# Altium schematic symbol library pporyzala-TI_Lighting.SchLib: 745 symbols (part 8 of 48)
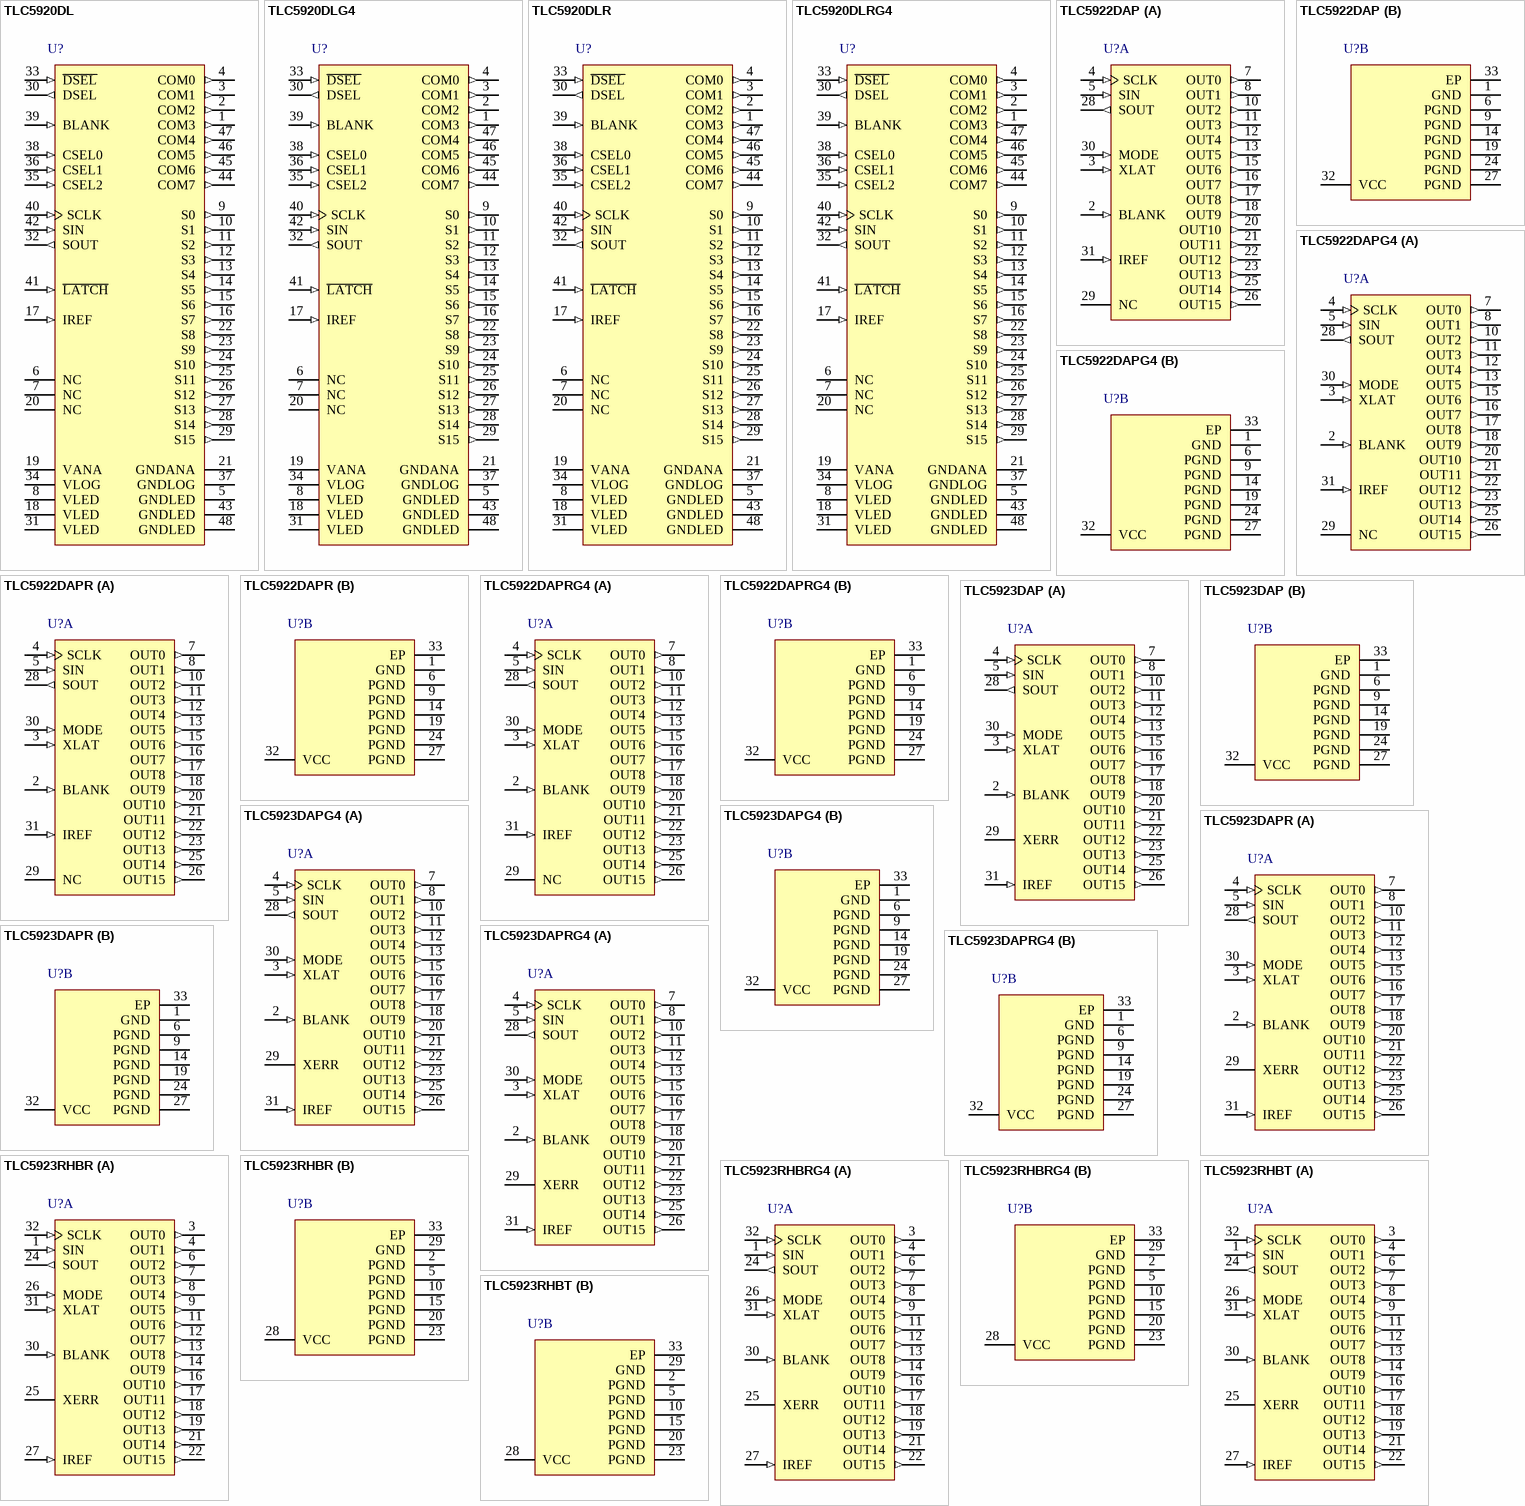
[diagram p38: symbols TLC5920DL to TLC5923RHBT]

## TLC5923RHBRG4
designator U?
16-Channel LED Driver with DOT Correction, 3 to 5.5 V, -40 to 85 degC, 32-pin QFN (RHB32), Green (RoHS & no Sb/Br); Manufacturer: Texas Instruments; PartNumber: TLC5923RHBRG4; Rating: Catalog; Vin(Max)(V): 5.5; Vin(Min)(V): 3; DatasheetVersion: SLVS550A; PackageVersion: 4204326/D; PackageReference: RHB32-3450X3450TP; PackageDescription: 32-Pin Plastic Flat Pack, Body 5 x 5 mm, Pitch 0.5 mm; Supplier 1: Digi-Key; Supplier Part Number 1: TLC5923RHBRG4-ND; Supplier 2: Mouser; Supplier Part Number 2: 595-TLC5923RHBRG4; Eco-Plan: Green (RoHS & no Sb/Br); SubFamily: LED Driver; Mounting Technology: Surface Mount; Code_JEDEC: MO-220; ComponentLink1Description: Manufacturer URL; ComponentLink1URL: http://www.ti.com/; ComponentLink2Description: Datasheet; ComponentLink2URL: http://www.ti.com/general/docs/lit/getliterature.tsp?genericPartNumber=TLC5923&fileType=pdf; ComponentLink3Description: Package Specification; ComponentLink3URL: http://www.ti.com/lit/ml/mpqf130c/mpqf130c.pdf
footprint TI-RHB32-3450X3450TP_V (QFN, 32-Leads, Body 5x5mm, Pitch 0.5mm, Thermal Pad 3.45x3.45mm)
part A pins: 1 SIN (in) "Data input of serial I/F", 3 OUT0 (out) "Constant current output", 4 OUT1 (out) "Constant current output", 6 OUT2 (out) "Constant current output", 7 OUT3 (out) "Constant current output", 8 OUT4 (out) "Constant current output", 9 OUT5 (out) "Constant current output", 11 OUT6 (out) "Constant current output", 12 OUT7 (out) "Constant current output", 13 OUT8 (out) "Constant current output", 14 OUT9 (out) "Constant current output", 16 OUT10 (out) "Constant current output", 17 OUT11 (out) "Constant current output", 18 OUT12 (out) "Constant current output", 19 OUT13 (out) "Constant current output", 21 OUT14 (out) "Constant current output", 22 OUT15 (out) "Constant current output", 24 SOUT (out) "Data output of serial I/F", 25 XERR (oc) "Error output. XERR is open drain terminal. XERR transistions from H to L when LOD or TEF detected.", 26 MODE (in) "Mode select. When MODE=L, SIN, SOUT, SCLK, XLAT are connected to ON/OFF control logic. When MODE=H, SIN, SOUT, SCLK, XLAT are connected to dot-correction logic.", 27 IREF (in) "Reference current terminal", 30 BLANK (in) "Blank (Light OFF). When BLANK=H, All OUTx outputs are forced OFF. When BLANK=L, ON/OFF of OUTx outputs are controlled by input data.", 31 XLAT (in) "Data latch. Note that the internal connections are switched by MODE (pin #30). At rising edge of XLAT, the latches selected by MODE get new data.", 32 SCLK (in) "Data shift clock. Note that the internal connections are switched by MODE (pin #30). At rising edge of XLAT, the shift-registers selected by MODE shift the data."
part B pins: 2 PGND (power) "Power ground", 5 PGND (power) "Power ground", 10 PGND (power) "Power ground", 15 PGND (power) "Power ground", 20 PGND (power) "Power ground", 23 PGND (power) "Power ground", 28 VCC (power) "Power supply voltage", 29 GND (power) "Ground", 33 EP "Exposed Thermal Pad"

## TLC5923RHBT
designator U?
16-Channel LED Driver with DOT Correction, 3 to 5.5 V, -40 to 85 degC, 32-pin QFN (RHB32), Green (RoHS & no Sb/Br); Manufacturer: Texas Instruments; PartNumber: TLC5923RHBT; Rating: Catalog; Vin(Max)(V): 5.5; Vin(Min)(V): 3; DatasheetVersion: SLVS550A; PackageVersion: 4204326/D; PackageReference: RHB32-3450X3450TP; PackageDescription: 32-Pin Plastic Flat Pack, Body 5 x 5 mm, Pitch 0.5 mm; Supplier 1: Digi-Key; Supplier Part Number 1: 296-19334-2-ND; Supplier 2: Digi-Key; Supplier Part Number 2: 296-19334-1-ND; Supplier 3: Digi-Key; Supplier Part Number 3: 296-19334-6-ND; Supplier 4: Newark; Supplier Part Number 4: 67K8506; Supplier 5: Mouser; Supplier Part Number 5: 595-TLC5923RHBT; Eco-Plan: Green (RoHS & no Sb/Br); SubFamily: LED Driver; Mounting Technology: Surface Mount; Code_JEDEC: MO-220; ComponentLink1Description: Manufacturer URL; ComponentLink1URL: http://www.ti.com/; ComponentLink2Description: Datasheet; ComponentLink2URL: http://www.ti.com/general/docs/lit/getliterature.tsp?genericPartNumber=TLC5923&fileType=pdf; ComponentLink3Description: Package Specification; ComponentLink3URL: http://www.ti.com/lit/ml/mpqf130c/mpqf130c.pdf
footprint TI-RHB32-3450X3450TP_V (QFN, 32-Leads, Body 5x5mm, Pitch 0.5mm, Thermal Pad 3.45x3.45mm)
part A pins: 1 SIN (in) "Data input of serial I/F", 3 OUT0 (out) "Constant current output", 4 OUT1 (out) "Constant current output", 6 OUT2 (out) "Constant current output", 7 OUT3 (out) "Constant current output", 8 OUT4 (out) "Constant current output", 9 OUT5 (out) "Constant current output", 11 OUT6 (out) "Constant current output", 12 OUT7 (out) "Constant current output", 13 OUT8 (out) "Constant current output", 14 OUT9 (out) "Constant current output", 16 OUT10 (out) "Constant current output", 17 OUT11 (out) "Constant current output", 18 OUT12 (out) "Constant current output", 19 OUT13 (out) "Constant current output", 21 OUT14 (out) "Constant current output", 22 OUT15 (out) "Constant current output", 24 SOUT (out) "Data output of serial I/F", 25 XERR (oc) "Error output. XERR is open drain terminal. XERR transistions from H to L when LOD or TEF detected.", 26 MODE (in) "Mode select. When MODE=L, SIN, SOUT, SCLK, XLAT are connected to ON/OFF control logic. When MODE=H, SIN, SOUT, SCLK, XLAT are connected to dot-correction logic.", 27 IREF (in) "Reference current terminal", 30 BLANK (in) "Blank (Light OFF). When BLANK=H, All OUTx outputs are forced OFF. When BLANK=L, ON/OFF of OUTx outputs are controlled by input data.", 31 XLAT (in) "Data latch. Note that the internal connections are switched by MODE (pin #30). At rising edge of XLAT, the latches selected by MODE get new data.", 32 SCLK (in) "Data shift clock. Note that the internal connections are switched by MODE (pin #30). At rising edge of XLAT, the shift-registers selected by MODE shift the data."
part B pins: 2 PGND (power) "Power ground", 5 PGND (power) "Power ground", 10 PGND (power) "Power ground", 15 PGND (power) "Power ground", 20 PGND (power) "Power ground", 23 PGND (power) "Power ground", 28 VCC (power) "Power supply voltage", 29 GND (power) "Ground", 33 EP "Exposed Thermal Pad"

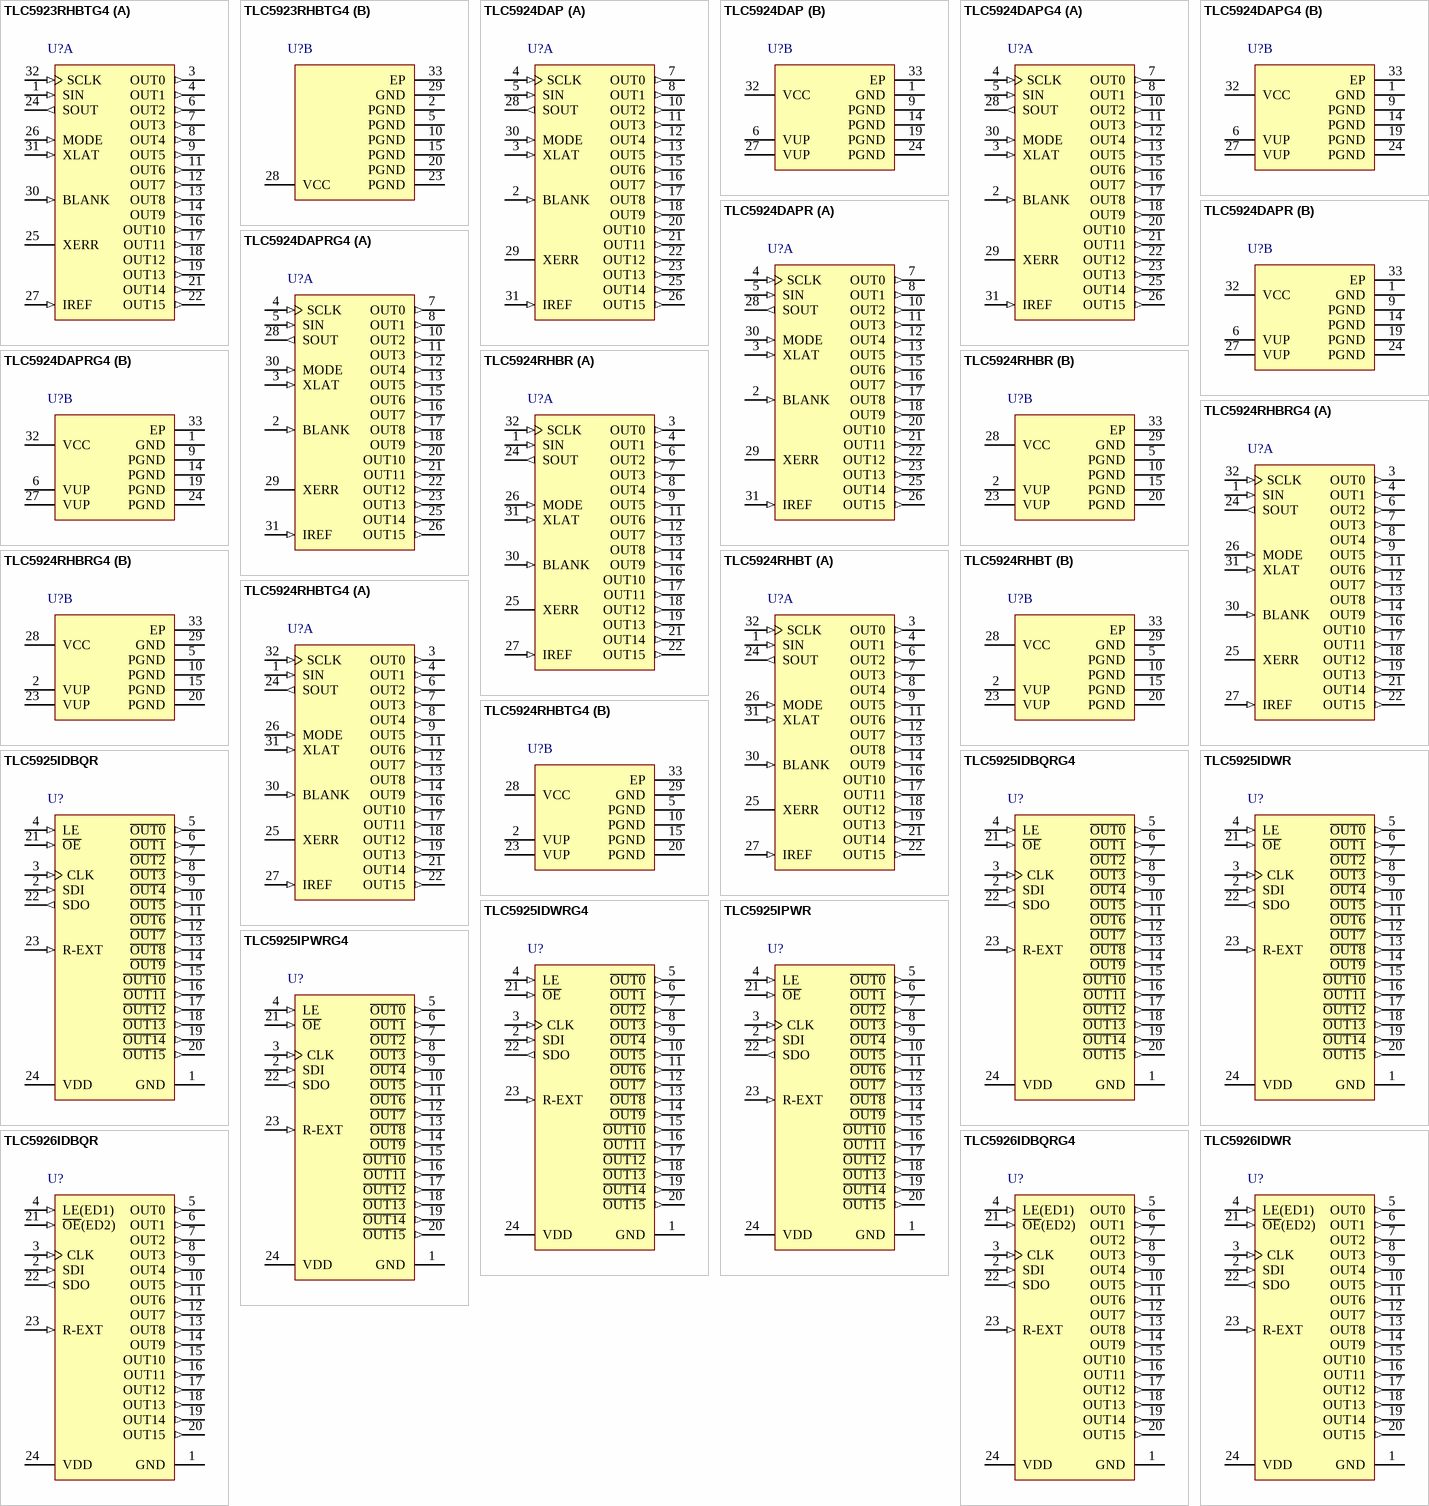
[diagram p6: symbols TLC5923RHBTG4 to TLC5926IDWR]

## TLC5923RHBTG4
designator U?
16-Channel LED Driver with DOT Correction, 3 to 5.5 V, -40 to 85 degC, 32-pin QFN (RHB32), Green (RoHS & no Sb/Br); Manufacturer: Texas Instruments; PartNumber: TLC5923RHBTG4; Rating: Catalog; Vin(Max)(V): 5.5; Vin(Min)(V): 3; DatasheetVersion: SLVS550A; PackageVersion: 4204326/D; PackageReference: RHB32-3450X3450TP; PackageDescription: 32-Pin Plastic Flat Pack, Body 5 x 5 mm, Pitch 0.5 mm; Supplier 1: Digi-Key; Supplier Part Number 1: TLC5923RHBTG4-ND; Supplier 2: Mouser; Supplier Part Number 2: 595-TLC5923RHBTG4; Eco-Plan: Green (RoHS & no Sb/Br); SubFamily: LED Driver; Mounting Technology: Surface Mount; Code_JEDEC: MO-220; ComponentLink1Description: Manufacturer URL; ComponentLink1URL: http://www.ti.com/; ComponentLink2Description: Datasheet; ComponentLink2URL: http://www.ti.com/general/docs/lit/getliterature.tsp?genericPartNumber=TLC5923&fileType=pdf; ComponentLink3Description: Package Specification; ComponentLink3URL: http://www.ti.com/lit/ml/mpqf130c/mpqf130c.pdf
footprint TI-RHB32-3450X3450TP_V (QFN, 32-Leads, Body 5x5mm, Pitch 0.5mm, Thermal Pad 3.45x3.45mm)
part A pins: 1 SIN (in) "Data input of serial I/F", 3 OUT0 (out) "Constant current output", 4 OUT1 (out) "Constant current output", 6 OUT2 (out) "Constant current output", 7 OUT3 (out) "Constant current output", 8 OUT4 (out) "Constant current output", 9 OUT5 (out) "Constant current output", 11 OUT6 (out) "Constant current output", 12 OUT7 (out) "Constant current output", 13 OUT8 (out) "Constant current output", 14 OUT9 (out) "Constant current output", 16 OUT10 (out) "Constant current output", 17 OUT11 (out) "Constant current output", 18 OUT12 (out) "Constant current output", 19 OUT13 (out) "Constant current output", 21 OUT14 (out) "Constant current output", 22 OUT15 (out) "Constant current output", 24 SOUT (out) "Data output of serial I/F", 25 XERR (oc) "Error output. XERR is open drain terminal. XERR transistions from H to L when LOD or TEF detected.", 26 MODE (in) "Mode select. When MODE=L, SIN, SOUT, SCLK, XLAT are connected to ON/OFF control logic. When MODE=H, SIN, SOUT, SCLK, XLAT are connected to dot-correction logic.", 27 IREF (in) "Reference current terminal", 30 BLANK (in) "Blank (Light OFF). When BLANK=H, All OUTx outputs are forced OFF. When BLANK=L, ON/OFF of OUTx outputs are controlled by input data.", 31 XLAT (in) "Data latch. Note that the internal connections are switched by MODE (pin #30). At rising edge of XLAT, the latches selected by MODE get new data.", 32 SCLK (in) "Data shift clock. Note that the internal connections are switched by MODE (pin #30). At rising edge of XLAT, the shift-registers selected by MODE shift the data."
part B pins: 2 PGND (power) "Power ground", 5 PGND (power) "Power ground", 10 PGND (power) "Power ground", 15 PGND (power) "Power ground", 20 PGND (power) "Power ground", 23 PGND (power) "Power ground", 28 VCC (power) "Power supply voltage", 29 GND (power) "Ground", 33 EP "Exposed Thermal Pad"

## TLC5924DAP
designator U?
16-Channel LED Driver with DOT Correction & Pre-Charge FET, 3 to 5.5 V, -40 to 85 degC, 32-pin SOP (DAP32), Green (RoHS & no Sb/Br); Manufacturer: Texas Instruments; PartNumber: TLC5924DAP; Iout(Max)(A): 0.08; Rating: Catalog; SubFamily: Signage/Linear; Vin(Max)(V): 5.5; Vin(Min)(V): 3; DatasheetVersion: SLVS626; PackageVersion: 4073257-4/E; PackageReference: DAP32-3810X3710TP; PackageDescription: 32-pin Plastic Small Outline, Body 11 x 6.1 mm, Pitch 0.65 mm; Supplier 1: Digi-Key; Supplier Part Number 1: 296-20736-ND; Supplier 2: Farnell; Supplier Part Number 2: 1755254; Supplier 3: Newark; Supplier Part Number 3: 18M3163; Supplier 4: Mouser; Supplier Part Number 4: 595-TLC5924DAP; Eco-Plan: Green (RoHS & no Sb/Br); Mounting Technology: Surface Mount; Code_JEDEC: MO-153; ComponentLink1Description: Manufacturer URL; ComponentLink1URL: http://www.ti.com/; ComponentLink2Description: Datasheet; ComponentLink2URL: http://www.ti.com/general/docs/lit/getliterature.tsp?genericPartNumber=TLC5924&fileType=pdf; ComponentLink3Description: Package Specification; ComponentLink3URL: http://www.ti.com/litv/pdf/mpds380
footprint TI-DAP32-3810X3710TP_N (SOIC, 32-Leads, Body 11x6.1mm, Pitch 0.65mm, Thermal Pad 3.71 x3.81mm, IPC Medium Density)
footprint TI-DAP32-3810X3710TP_L (SOIC, 32-Leads, Body 11x6.1mm, Pitch 0.65mm, Thermal Pad 3.71 x3.81mm, IPC High Density)
footprint TI-DAP32-3810X3710TP_M (SOIC, 32-Leads, Body 11x6.1mm, Pitch 0.65mm, Thermal Pad 3.71 x3.81mm, IPC Low Density)
part A pins: 2 BLANK (in) "Blank (Light OFF). When BLANK=H, All OUTn outputs are forced to VUP level. When BLANK=L, ON/OFF of OUTn outputs are controlled by input data.", 3 XLAT (in) "Data latch signal. When MODE = L (ON/OFF data mode), XLAT is an edge-triggered latch signal of ON/OFF registers. The serial data in ON/OFF input shift registers is latched into the ON/OFF registers at the rising edge of XLAT.(See Datasheet)", 4 SCLK (in) "Data shift clock. Note that the internal connections are switched by MODE (pin #30). At rising edge of SCLK­, the shift-registers selected by MODE shift the data.", 5 SIN (in) "Data input of serial I/F", 7 OUT0 (out) "Constant current output", 8 OUT1 (out) "Constant current output", 10 OUT2 (out) "Constant current output", 11 OUT3 (out) "Constant current output", 12 OUT4 (out) "Constant current output", 13 OUT5 (out) "Constant current output", 15 OUT6 (out) "Constant current output", 16 OUT7 (out) "Constant current output", 17 OUT8 (out) "Constant current output", 18 OUT9 (out) "Constant current output", 20 OUT10 (out) "Constant current output", 21 OUT11 (out) "Constant current output", 22 OUT12 (out) "Constant current output", 23 OUT13 (out) "Constant current output", 25 OUT14 (out) "Constant current output", 26 OUT15 (out) "Constant current output", 28 SOUT (out) "Data output of serial I/F", 29 XERR (hiz) "Error output. XERR is open drain terminal. XERR transistions from H to L when LOD or TEF detected.", 30 MODE (in) "Mode select. When MODE=L, SIN, SOUT, SCLK, XLAT are connected to ON/OFF control logic. When MODE=H, SIN, SOUT, SCLK, XLAT are connected to dot-correction logic.", 31 IREF (in) "Reference current terminal"
part B pins: 1 GND (power) "Ground", 6 VUP (power) "Pre-charge power supply voltage", 9 PGND (power) "Power ground", 14 PGND (power) "Power ground", 19 PGND (power) "Power ground", 24 PGND (power) "Power ground", 27 VUP (power) "Pre-charge power supply voltage", 32 VCC (power) "Power supply voltage", 33 EP "Thermal pad"

## TLC5924DAPG4
designator U?
16-Channel LED Driver with DOT Correction & Pre-Charge FET, 3 to 5.5 V, -40 to 85 degC, 32-pin SOP (DAP32), Green (RoHS & no Sb/Br); Manufacturer: Texas Instruments; PartNumber: TLC5924DAPG4; Iout(Max)(A): 0.08; Rating: Catalog; SubFamily: Signage/Linear; Vin(Max)(V): 5.5; Vin(Min)(V): 3; DatasheetVersion: SLVS626; PackageVersion: 4073257-4/E; PackageReference: DAP32-3810X3710TP; PackageDescription: 32-pin Plastic Small Outline, Body 11 x 6.1 mm, Pitch 0.65 mm; Supplier 1: Digi-Key; Supplier Part Number 1: TLC5924DAPG4-ND; Supplier 2: Newark; Supplier Part Number 2: 18M3164; Supplier 3: Mouser; Supplier Part Number 3: 595-TLC5924DAPG4; Eco-Plan: Green (RoHS & no Sb/Br); Mounting Technology: Surface Mount; Code_JEDEC: MO-153; ComponentLink1Description: Manufacturer URL; ComponentLink1URL: http://www.ti.com/; ComponentLink2Description: Datasheet; ComponentLink2URL: http://www.ti.com/general/docs/lit/getliterature.tsp?genericPartNumber=TLC5924&fileType=pdf; ComponentLink3Description: Package Specification; ComponentLink3URL: http://www.ti.com/litv/pdf/mpds380
footprint TI-DAP32-3810X3710TP_N (SOIC, 32-Leads, Body 11x6.1mm, Pitch 0.65mm, Thermal Pad 3.71 x3.81mm, IPC Medium Density)
footprint TI-DAP32-3810X3710TP_L (SOIC, 32-Leads, Body 11x6.1mm, Pitch 0.65mm, Thermal Pad 3.71 x3.81mm, IPC High Density)
footprint TI-DAP32-3810X3710TP_M (SOIC, 32-Leads, Body 11x6.1mm, Pitch 0.65mm, Thermal Pad 3.71 x3.81mm, IPC Low Density)
part A pins: 2 BLANK (in) "Blank (Light OFF). When BLANK=H, All OUTn outputs are forced to VUP level. When BLANK=L, ON/OFF of OUTn outputs are controlled by input data.", 3 XLAT (in) "Data latch signal. When MODE = L (ON/OFF data mode), XLAT is an edge-triggered latch signal of ON/OFF registers. The serial data in ON/OFF input shift registers is latched into the ON/OFF registers at the rising edge of XLAT.(See Datasheet)", 4 SCLK (in) "Data shift clock. Note that the internal connections are switched by MODE (pin #30). At rising edge of SCLK­, the shift-registers selected by MODE shift the data.", 5 SIN (in) "Data input of serial I/F", 7 OUT0 (out) "Constant current output", 8 OUT1 (out) "Constant current output", 10 OUT2 (out) "Constant current output", 11 OUT3 (out) "Constant current output", 12 OUT4 (out) "Constant current output", 13 OUT5 (out) "Constant current output", 15 OUT6 (out) "Constant current output", 16 OUT7 (out) "Constant current output", 17 OUT8 (out) "Constant current output", 18 OUT9 (out) "Constant current output", 20 OUT10 (out) "Constant current output", 21 OUT11 (out) "Constant current output", 22 OUT12 (out) "Constant current output", 23 OUT13 (out) "Constant current output", 25 OUT14 (out) "Constant current output", 26 OUT15 (out) "Constant current output", 28 SOUT (out) "Data output of serial I/F", 29 XERR (hiz) "Error output. XERR is open drain terminal. XERR transistions from H to L when LOD or TEF detected.", 30 MODE (in) "Mode select. When MODE=L, SIN, SOUT, SCLK, XLAT are connected to ON/OFF control logic. When MODE=H, SIN, SOUT, SCLK, XLAT are connected to dot-correction logic.", 31 IREF (in) "Reference current terminal"
part B pins: 1 GND (power) "Ground", 6 VUP (power) "Pre-charge power supply voltage", 9 PGND (power) "Power ground", 14 PGND (power) "Power ground", 19 PGND (power) "Power ground", 24 PGND (power) "Power ground", 27 VUP (power) "Pre-charge power supply voltage", 32 VCC (power) "Power supply voltage", 33 EP "Thermal pad"

## TLC5924DAPR
designator U?
16-Channel LED Driver with DOT Correction & Pre-Charge FET, 3 to 5.5 V, -40 to 85 degC, 32-pin SOP (DAP32), Green (RoHS & no Sb/Br); Manufacturer: Texas Instruments; PartNumber: TLC5924DAPR; Iout(Max)(A): 0.08; Rating: Catalog; SubFamily: Signage/Linear; Vin(Max)(V): 5.5; Vin(Min)(V): 3; DatasheetVersion: SLVS626; PackageVersion: 4073257-4/E; PackageReference: DAP32-3810X3710TP; PackageDescription: 32-pin Plastic Small Outline, Body 11 x 6.1 mm, Pitch 0.65 mm; Supplier 1: Digi-Key; Supplier Part Number 1: TLC5924DAPR-ND; Supplier 2: Mouser; Supplier Part Number 2: 595-TLC5924DAPR; Eco-Plan: Green (RoHS & no Sb/Br); Mounting Technology: Surface Mount; Code_JEDEC: MO-153; ComponentLink1Description: Manufacturer URL; ComponentLink1URL: http://www.ti.com/; ComponentLink2Description: Datasheet; ComponentLink2URL: http://www.ti.com/general/docs/lit/getliterature.tsp?genericPartNumber=TLC5924&fileType=pdf; ComponentLink3Description: Package Specification; ComponentLink3URL: http://www.ti.com/litv/pdf/mpds380
footprint TI-DAP32-3810X3710TP_N (SOIC, 32-Leads, Body 11x6.1mm, Pitch 0.65mm, Thermal Pad 3.71 x3.81mm, IPC Medium Density)
footprint TI-DAP32-3810X3710TP_L (SOIC, 32-Leads, Body 11x6.1mm, Pitch 0.65mm, Thermal Pad 3.71 x3.81mm, IPC High Density)
footprint TI-DAP32-3810X3710TP_M (SOIC, 32-Leads, Body 11x6.1mm, Pitch 0.65mm, Thermal Pad 3.71 x3.81mm, IPC Low Density)
part A pins: 2 BLANK (in) "Blank (Light OFF). When BLANK=H, All OUTn outputs are forced to VUP level. When BLANK=L, ON/OFF of OUTn outputs are controlled by input data.", 3 XLAT (in) "Data latch signal. When MODE = L (ON/OFF data mode), XLAT is an edge-triggered latch signal of ON/OFF registers. The serial data in ON/OFF input shift registers is latched into the ON/OFF registers at the rising edge of XLAT.(See Datasheet)", 4 SCLK (in) "Data shift clock. Note that the internal connections are switched by MODE (pin #30). At rising edge of SCLK­, the shift-registers selected by MODE shift the data.", 5 SIN (in) "Data input of serial I/F", 7 OUT0 (out) "Constant current output", 8 OUT1 (out) "Constant current output", 10 OUT2 (out) "Constant current output", 11 OUT3 (out) "Constant current output", 12 OUT4 (out) "Constant current output", 13 OUT5 (out) "Constant current output", 15 OUT6 (out) "Constant current output", 16 OUT7 (out) "Constant current output", 17 OUT8 (out) "Constant current output", 18 OUT9 (out) "Constant current output", 20 OUT10 (out) "Constant current output", 21 OUT11 (out) "Constant current output", 22 OUT12 (out) "Constant current output", 23 OUT13 (out) "Constant current output", 25 OUT14 (out) "Constant current output", 26 OUT15 (out) "Constant current output", 28 SOUT (out) "Data output of serial I/F", 29 XERR (hiz) "Error output. XERR is open drain terminal. XERR transistions from H to L when LOD or TEF detected.", 30 MODE (in) "Mode select. When MODE=L, SIN, SOUT, SCLK, XLAT are connected to ON/OFF control logic. When MODE=H, SIN, SOUT, SCLK, XLAT are connected to dot-correction logic.", 31 IREF (in) "Reference current terminal"
part B pins: 1 GND (power) "Ground", 6 VUP (power) "Pre-charge power supply voltage", 9 PGND (power) "Power ground", 14 PGND (power) "Power ground", 19 PGND (power) "Power ground", 24 PGND (power) "Power ground", 27 VUP (power) "Pre-charge power supply voltage", 32 VCC (power) "Power supply voltage", 33 EP "Thermal pad"

## TLC5924DAPRG4
designator U?
16-Channel LED Driver with DOT Correction & Pre-Charge FET, 3 to 5.5 V, -40 to 85 degC, 32-pin SOP (DAP32), Green (RoHS & no Sb/Br); Manufacturer: Texas Instruments; PartNumber: TLC5924DAPRG4; Iout(Max)(A): 0.08; Rating: Catalog; SubFamily: Signage/Linear; Vin(Max)(V): 5.5; Vin(Min)(V): 3; DatasheetVersion: SLVS626; PackageVersion: 4073257-4/E; PackageReference: DAP32-3810X3710TP; PackageDescription: 32-pin Plastic Small Outline, Body 11 x 6.1 mm, Pitch 0.65 mm; Supplier 1: Digi-Key; Supplier Part Number 1: TLC5924DAPRG4-ND; Supplier 2: Mouser; Supplier Part Number 2: 595-TLC5924DAPRG4; Eco-Plan: Green (RoHS & no Sb/Br); Mounting Technology: Surface Mount; Code_JEDEC: MO-153; ComponentLink1Description: Manufacturer URL; ComponentLink1URL: http://www.ti.com/; ComponentLink2Description: Datasheet; ComponentLink2URL: http://www.ti.com/general/docs/lit/getliterature.tsp?genericPartNumber=TLC5924&fileType=pdf; ComponentLink3Description: Package Specification; ComponentLink3URL: http://www.ti.com/litv/pdf/mpds380
footprint TI-DAP32-3810X3710TP_N (SOIC, 32-Leads, Body 11x6.1mm, Pitch 0.65mm, Thermal Pad 3.71 x3.81mm, IPC Medium Density)
footprint TI-DAP32-3810X3710TP_L (SOIC, 32-Leads, Body 11x6.1mm, Pitch 0.65mm, Thermal Pad 3.71 x3.81mm, IPC High Density)
footprint TI-DAP32-3810X3710TP_M (SOIC, 32-Leads, Body 11x6.1mm, Pitch 0.65mm, Thermal Pad 3.71 x3.81mm, IPC Low Density)
part A pins: 2 BLANK (in) "Blank (Light OFF). When BLANK=H, All OUTn outputs are forced to VUP level. When BLANK=L, ON/OFF of OUTn outputs are controlled by input data.", 3 XLAT (in) "Data latch signal. When MODE = L (ON/OFF data mode), XLAT is an edge-triggered latch signal of ON/OFF registers. The serial data in ON/OFF input shift registers is latched into the ON/OFF registers at the rising edge of XLAT.(See Datasheet)", 4 SCLK (in) "Data shift clock. Note that the internal connections are switched by MODE (pin #30). At rising edge of SCLK­, the shift-registers selected by MODE shift the data.", 5 SIN (in) "Data input of serial I/F", 7 OUT0 (out) "Constant current output", 8 OUT1 (out) "Constant current output", 10 OUT2 (out) "Constant current output", 11 OUT3 (out) "Constant current output", 12 OUT4 (out) "Constant current output", 13 OUT5 (out) "Constant current output", 15 OUT6 (out) "Constant current output", 16 OUT7 (out) "Constant current output", 17 OUT8 (out) "Constant current output", 18 OUT9 (out) "Constant current output", 20 OUT10 (out) "Constant current output", 21 OUT11 (out) "Constant current output", 22 OUT12 (out) "Constant current output", 23 OUT13 (out) "Constant current output", 25 OUT14 (out) "Constant current output", 26 OUT15 (out) "Constant current output", 28 SOUT (out) "Data output of serial I/F", 29 XERR (hiz) "Error output. XERR is open drain terminal. XERR transistions from H to L when LOD or TEF detected.", 30 MODE (in) "Mode select. When MODE=L, SIN, SOUT, SCLK, XLAT are connected to ON/OFF control logic. When MODE=H, SIN, SOUT, SCLK, XLAT are connected to dot-correction logic.", 31 IREF (in) "Reference current terminal"
part B pins: 1 GND (power) "Ground", 6 VUP (power) "Pre-charge power supply voltage", 9 PGND (power) "Power ground", 14 PGND (power) "Power ground", 19 PGND (power) "Power ground", 24 PGND (power) "Power ground", 27 VUP (power) "Pre-charge power supply voltage", 32 VCC (power) "Power supply voltage", 33 EP "Thermal pad"

## TLC5924RHBR
designator U?
16-Channel LED Driver with DOT Correction & Pre-Charge FET, 3 to 5.5 V, -40 to 85 degC, 32-pin QFN (RHB32), Green (RoHS & no Sb/Br); Manufacturer: Texas Instruments; PartNumber: TLC5924RHBR; Iout(Max)(A): 0.08; Rating: Catalog; SubFamily: Signage/Linear; Vin(Max)(V): 5.5; Vin(Min)(V): 3; DatasheetVersion: SLVS626; PackageVersion: 4204326/D; PackageReference: RHB32-3450X3450TP; PackageDescription: 32-Pin Plastic Flat Pack, Body 5 x 5 mm, Pitch 0.5 mm; Supplier 1: Digi-Key; Supplier Part Number 1: TLC5924RHBR-ND; Supplier 2: Newark; Supplier Part Number 2: 18M3167; Supplier 3: Mouser; Supplier Part Number 3: 595-TLC5924RHBR; Eco-Plan: Green (RoHS & no Sb/Br); Mounting Technology: Surface Mount; Code_JEDEC: MO-220; ComponentLink1Description: Manufacturer URL; ComponentLink1URL: http://www.ti.com/; ComponentLink2Description: Datasheet; ComponentLink2URL: http://www.ti.com/general/docs/lit/getliterature.tsp?genericPartNumber=TLC5924&fileType=pdf; ComponentLink3Description: Package Specification; ComponentLink3URL: http://www.ti.com/lit/ml/mpqf130c/mpqf130c.pdf
footprint TI-RHB32-3450X3450TP_V (QFN, 32-Leads, Body 5x5mm, Pitch 0.5mm, Thermal Pad 3.45x3.45mm)
part A pins: 1 SIN (in) "Data input of serial I/F", 3 OUT0 (out) "Constant current output", 4 OUT1 (out) "Constant current output", 6 OUT2 (out) "Constant current output", 7 OUT3 (out) "Constant current output", 8 OUT4 (out) "Constant current output", 9 OUT5 (out) "Constant current output", 11 OUT6 (out) "Constant current output", 12 OUT7 (out) "Constant current output", 13 OUT8 (out) "Constant current output", 14 OUT9 (out) "Constant current output", 16 OUT10 (out) "Constant current output", 17 OUT11 (out) "Constant current output", 18 OUT12 (out) "Constant current output", 19 OUT13 (out) "Constant current output", 21 OUT14 (out) "Constant current output", 22 OUT15 (out) "Constant current output", 24 SOUT (out) "Data output of serial I/F", 25 XERR (hiz) "Error output. XERR is open drain terminal. XERR transistions from H to L when LOD or TEF detected.", 26 MODE (in) "Mode select. When MODE=L, SIN, SOUT, SCLK, XLAT are connected to ON/OFF control logic. When MODE=H, SIN, SOUT, SCLK, XLAT are connected to dot-correction logic.", 27 IREF (in) "Reference current terminal", 30 BLANK (in) "Blank (Light OFF). When BLANK=H, All OUTn outputs are forced to VUP level. When BLANK=L, ON/OFF of OUTn outputs are controlled by input data.", 31 XLAT (in) "Data latch signal. When MODE = L (ON/OFF data mode), XLAT is an edge-triggered latch signal of ON/OFF registers. The serial data in ON/OFF input shift registers is latched into the ON/OFF registers at the rising edge of XLAT.(See Datasheet)", 32 SCLK (in) "Data shift clock. Note that the internal connections are switched by MODE (pin #30). At rising edge of SCLK­, the shift-registers selected by MODE shift the data."
part B pins: 2 VUP (power) "Pre-charge power supply voltage", 5 PGND (power) "Power ground", 10 PGND (power) "Power ground", 15 PGND (power) "Power ground", 20 PGND (power) "Power ground", 23 VUP (power) "Pre-charge power supply voltage", 28 VCC (power) "Power supply voltage", 29 GND (power) "Ground", 33 EP "Thermal pad"

## TLC5924RHBRG4
designator U?
16-Channel LED Driver with DOT Correction & Pre-Charge FET, 3 to 5.5 V, -40 to 85 degC, 32-pin QFN (RHB32), Green (RoHS & no Sb/Br); Manufacturer: Texas Instruments; PartNumber: TLC5924RHBRG4; Iout(Max)(A): 0.08; Rating: Catalog; SubFamily: Signage/Linear; Vin(Max)(V): 5.5; Vin(Min)(V): 3; DatasheetVersion: SLVS626; PackageVersion: 4204326/D; PackageReference: RHB32-3450X3450TP; PackageDescription: 32-Pin Plastic Flat Pack, Body 5 x 5 mm, Pitch 0.5 mm; Supplier 1: Digi-Key; Supplier Part Number 1: TLC5924RHBRG4-ND; Supplier 2: Newark; Supplier Part Number 2: 18M3168; Supplier 3: Mouser; Supplier Part Number 3: 595-TLC5924RHBRG4; Eco-Plan: Green (RoHS & no Sb/Br); Mounting Technology: Surface Mount; Code_JEDEC: MO-220; ComponentLink1Description: Manufacturer URL; ComponentLink1URL: http://www.ti.com/; ComponentLink2Description: Datasheet; ComponentLink2URL: http://www.ti.com/general/docs/lit/getliterature.tsp?genericPartNumber=TLC5924&fileType=pdf; ComponentLink3Description: Package Specification; ComponentLink3URL: http://www.ti.com/lit/ml/mpqf130c/mpqf130c.pdf
footprint TI-RHB32-3450X3450TP_V (QFN, 32-Leads, Body 5x5mm, Pitch 0.5mm, Thermal Pad 3.45x3.45mm)
part A pins: 1 SIN (in) "Data input of serial I/F", 3 OUT0 (out) "Constant current output", 4 OUT1 (out) "Constant current output", 6 OUT2 (out) "Constant current output", 7 OUT3 (out) "Constant current output", 8 OUT4 (out) "Constant current output", 9 OUT5 (out) "Constant current output", 11 OUT6 (out) "Constant current output", 12 OUT7 (out) "Constant current output", 13 OUT8 (out) "Constant current output", 14 OUT9 (out) "Constant current output", 16 OUT10 (out) "Constant current output", 17 OUT11 (out) "Constant current output", 18 OUT12 (out) "Constant current output", 19 OUT13 (out) "Constant current output", 21 OUT14 (out) "Constant current output", 22 OUT15 (out) "Constant current output", 24 SOUT (out) "Data output of serial I/F", 25 XERR (hiz) "Error output. XERR is open drain terminal. XERR transistions from H to L when LOD or TEF detected.", 26 MODE (in) "Mode select. When MODE=L, SIN, SOUT, SCLK, XLAT are connected to ON/OFF control logic. When MODE=H, SIN, SOUT, SCLK, XLAT are connected to dot-correction logic.", 27 IREF (in) "Reference current terminal", 30 BLANK (in) "Blank (Light OFF). When BLANK=H, All OUTn outputs are forced to VUP level. When BLANK=L, ON/OFF of OUTn outputs are controlled by input data.", 31 XLAT (in) "Data latch signal. When MODE = L (ON/OFF data mode), XLAT is an edge-triggered latch signal of ON/OFF registers. The serial data in ON/OFF input shift registers is latched into the ON/OFF registers at the rising edge of XLAT.(See Datasheet)", 32 SCLK (in) "Data shift clock. Note that the internal connections are switched by MODE (pin #30). At rising edge of SCLK­, the shift-registers selected by MODE shift the data."
part B pins: 2 VUP (power) "Pre-charge power supply voltage", 5 PGND (power) "Power ground", 10 PGND (power) "Power ground", 15 PGND (power) "Power ground", 20 PGND (power) "Power ground", 23 VUP (power) "Pre-charge power supply voltage", 28 VCC (power) "Power supply voltage", 29 GND (power) "Ground", 33 EP "Thermal pad"

## TLC5924RHBT
designator U?
16-Channel LED Driver with DOT Correction & Pre-Charge FET, 3 to 5.5 V, -40 to 85 degC, 32-pin QFN (RHB32), Green (RoHS & no Sb/Br); Manufacturer: Texas Instruments; PartNumber: TLC5924RHBT; Iout(Max)(A): 0.08; Rating: Catalog; SubFamily: Signage/Linear; Vin(Max)(V): 5.5; Vin(Min)(V): 3; DatasheetVersion: SLVS626; PackageVersion: 4204326/D; PackageReference: RHB32-3450X3450TP; PackageDescription: 32-Pin Plastic Flat Pack, Body 5 x 5 mm, Pitch 0.5 mm; Supplier 1: Digi-Key; Supplier Part Number 1: 296-20779-2-ND; Supplier 2: Digi-Key; Supplier Part Number 2: 296-20779-1-ND; Supplier 3: Digi-Key; Supplier Part Number 3: 296-20779-6-ND; Supplier 4: Farnell; Supplier Part Number 4: 1564934RL; Supplier 5: Newark; Supplier Part Number 5: 18M3169; Supplier 6: Mouser; Supplier Part Number 6: 595-TLC5924RHBT; Eco-Plan: Green (RoHS & no Sb/Br); Mounting Technology: Surface Mount; Code_JEDEC: MO-220; ComponentLink1Description: Manufacturer URL; ComponentLink1URL: http://www.ti.com/; ComponentLink2Description: Datasheet; ComponentLink2URL: http://www.ti.com/general/docs/lit/getliterature.tsp?genericPartNumber=TLC5924&fileType=pdf; ComponentLink3Description: Package Specification; ComponentLink3URL: http://www.ti.com/lit/ml/mpqf130c/mpqf130c.pdf
footprint TI-RHB32-3450X3450TP_V (QFN, 32-Leads, Body 5x5mm, Pitch 0.5mm, Thermal Pad 3.45x3.45mm)
part A pins: 1 SIN (in) "Data input of serial I/F", 3 OUT0 (out) "Constant current output", 4 OUT1 (out) "Constant current output", 6 OUT2 (out) "Constant current output", 7 OUT3 (out) "Constant current output", 8 OUT4 (out) "Constant current output", 9 OUT5 (out) "Constant current output", 11 OUT6 (out) "Constant current output", 12 OUT7 (out) "Constant current output", 13 OUT8 (out) "Constant current output", 14 OUT9 (out) "Constant current output", 16 OUT10 (out) "Constant current output", 17 OUT11 (out) "Constant current output", 18 OUT12 (out) "Constant current output", 19 OUT13 (out) "Constant current output", 21 OUT14 (out) "Constant current output", 22 OUT15 (out) "Constant current output", 24 SOUT (out) "Data output of serial I/F", 25 XERR (hiz) "Error output. XERR is open drain terminal. XERR transistions from H to L when LOD or TEF detected.", 26 MODE (in) "Mode select. When MODE=L, SIN, SOUT, SCLK, XLAT are connected to ON/OFF control logic. When MODE=H, SIN, SOUT, SCLK, XLAT are connected to dot-correction logic.", 27 IREF (in) "Reference current terminal", 30 BLANK (in) "Blank (Light OFF). When BLANK=H, All OUTn outputs are forced to VUP level. When BLANK=L, ON/OFF of OUTn outputs are controlled by input data.", 31 XLAT (in) "Data latch signal. When MODE = L (ON/OFF data mode), XLAT is an edge-triggered latch signal of ON/OFF registers. The serial data in ON/OFF input shift registers is latched into the ON/OFF registers at the rising edge of XLAT.(See Datasheet)", 32 SCLK (in) "Data shift clock. Note that the internal connections are switched by MODE (pin #30). At rising edge of SCLK­, the shift-registers selected by MODE shift the data."
part B pins: 2 VUP (power) "Pre-charge power supply voltage", 5 PGND (power) "Power ground", 10 PGND (power) "Power ground", 15 PGND (power) "Power ground", 20 PGND (power) "Power ground", 23 VUP (power) "Pre-charge power supply voltage", 28 VCC (power) "Power supply voltage", 29 GND (power) "Ground", 33 EP "Thermal pad"

## TLC5924RHBTG4
designator U?
16-Channel LED Driver with DOT Correction & Pre-Charge FET, 3 to 5.5 V, -40 to 85 degC, 32-pin QFN (RHB32), Green (RoHS & no Sb/Br); Manufacturer: Texas Instruments; PartNumber: TLC5924RHBTG4; Iout(Max)(A): 0.08; Rating: Catalog; SubFamily: Signage/Linear; Vin(Max)(V): 5.5; Vin(Min)(V): 3; DatasheetVersion: SLVS626; PackageVersion: 4204326/D; PackageReference: RHB32-3450X3450TP; PackageDescription: 32-Pin Plastic Flat Pack, Body 5 x 5 mm, Pitch 0.5 mm; Supplier 1: Digi-Key; Supplier Part Number 1: TLC5924RHBTG4-ND; Supplier 2: Newark; Supplier Part Number 2: 18M3170; Supplier 3: Mouser; Supplier Part Number 3: 595-TLC5924RHBTG4; Eco-Plan: Green (RoHS & no Sb/Br); Mounting Technology: Surface Mount; Code_JEDEC: MO-220; ComponentLink1Description: Manufacturer URL; ComponentLink1URL: http://www.ti.com/; ComponentLink2Description: Datasheet; ComponentLink2URL: http://www.ti.com/general/docs/lit/getliterature.tsp?genericPartNumber=TLC5924&fileType=pdf; ComponentLink3Description: Package Specification; ComponentLink3URL: http://www.ti.com/lit/ml/mpqf130c/mpqf130c.pdf
footprint TI-RHB32-3450X3450TP_V (QFN, 32-Leads, Body 5x5mm, Pitch 0.5mm, Thermal Pad 3.45x3.45mm)
part A pins: 1 SIN (in) "Data input of serial I/F", 3 OUT0 (out) "Constant current output", 4 OUT1 (out) "Constant current output", 6 OUT2 (out) "Constant current output", 7 OUT3 (out) "Constant current output", 8 OUT4 (out) "Constant current output", 9 OUT5 (out) "Constant current output", 11 OUT6 (out) "Constant current output", 12 OUT7 (out) "Constant current output", 13 OUT8 (out) "Constant current output", 14 OUT9 (out) "Constant current output", 16 OUT10 (out) "Constant current output", 17 OUT11 (out) "Constant current output", 18 OUT12 (out) "Constant current output", 19 OUT13 (out) "Constant current output", 21 OUT14 (out) "Constant current output", 22 OUT15 (out) "Constant current output", 24 SOUT (out) "Data output of serial I/F", 25 XERR (hiz) "Error output. XERR is open drain terminal. XERR transistions from H to L when LOD or TEF detected.", 26 MODE (in) "Mode select. When MODE=L, SIN, SOUT, SCLK, XLAT are connected to ON/OFF control logic. When MODE=H, SIN, SOUT, SCLK, XLAT are connected to dot-correction logic.", 27 IREF (in) "Reference current terminal", 30 BLANK (in) "Blank (Light OFF). When BLANK=H, All OUTn outputs are forced to VUP level. When BLANK=L, ON/OFF of OUTn outputs are controlled by input data.", 31 XLAT (in) "Data latch signal. When MODE = L (ON/OFF data mode), XLAT is an edge-triggered latch signal of ON/OFF registers. The serial data in ON/OFF input shift registers is latched into the ON/OFF registers at the rising edge of XLAT.(See Datasheet)", 32 SCLK (in) "Data shift clock. Note that the internal connections are switched by MODE (pin #30). At rising edge of SCLK­, the shift-registers selected by MODE shift the data."
part B pins: 2 VUP (power) "Pre-charge power supply voltage", 5 PGND (power) "Power ground", 10 PGND (power) "Power ground", 15 PGND (power) "Power ground", 20 PGND (power) "Power ground", 23 VUP (power) "Pre-charge power supply voltage", 28 VCC (power) "Power supply voltage", 29 GND (power) "Ground", 33 EP "Thermal pad"

## TLC5925IDBQR
designator U?
Low-Power 16-Channel Constant-Current LED Sink Driver, 3 to 5.5 V, -40 to 85 degC, 24-pin SOP (DBQ24), Green (RoHS & no Sb/Br); Manufacturer: Texas Instruments; PartNumber: TLC5925IDBQR; Iout(Max)(A): 0.045; Rating: Catalog; SubFamily: Signage/Linear; Vin(Max)(V): 5.5; Vin(Min)(V): 3; DatasheetVersion: SLVS765; PackageVersion: 4073301-4/H; PackageReference: DBQ24; PackageDescription: 24-Pin Plastic Small-Outline, Body 8.65 x 3.90 mm, Pitch 0.635 mm; Supplier 1: Digi-Key; Supplier Part Number 1: 296-23916-2-ND; Supplier 2: Digi-Key; Supplier Part Number 2: 296-23916-1-ND; Supplier 3: Digi-Key; Supplier Part Number 3: 296-23916-6-ND; Supplier 4: Farnell; Supplier Part Number 4: 1694438RL; Supplier 5: Farnell; Supplier Part Number 5: 1694438; Supplier 6: Newark; Supplier Part Number 6: 46P3784; Supplier 7: Mouser; Supplier Part Number 7: 595-TLC5925IDBQR; Eco-Plan: Green (RoHS & no Sb/Br); Mounting Technology: Surface Mount; Code_JEDEC: MO-137; ComponentLink1Description: Manufacturer URL; ComponentLink1URL: http://www.ti.com/; ComponentLink2Description: Datasheet; ComponentLink2URL: http://www.ti.com/general/docs/lit/getliterature.tsp?genericPartNumber=TLC5925&fileType=pdf; ComponentLink3Description: Package Specification; ComponentLink3URL: http://www.ti.com/litv/pdf/mpds211a
footprint TI-DBQ24_N (SOP, 24-Leads, Body 8.65x6mm, Pitch 0.635mm, IPC Medium Density)
footprint TI-DBQ24_L (SOP, 24-Leads, Body 8.65x6mm, Pitch 0.635mm, IPC High Density)
footprint TI-DBQ24_M (SOP, 24-Leads, Body 8.65x6mm, Pitch 0.635mm, IPC Low Density)
pins: 1 GND (power) "Ground for control logic and current sink", 2 SDI (in) "Serial-data input to the Shift register", 3 CLK (in) "Clock input for data shift on rising edge", 4 LE (in) "Data strobe input Serial data is transferred to the respective latch when LE is high.The data is latched when LE low.LE has an internal pull-down resistor.", 5 ~{OUT0} (out) "Constant-current output", 6 ~{OUT1} (out) "Constant-current output", 7 ~{OUT2} (out) "Constant-current output", 8 ~{OUT3} (out) "Constant-current output", 9 ~{OUT4} (out) "Constant-current output", 10 ~{OUT5} (out) "Constant-current output", 11 ~{OUT6} (out) "Constant-current output", 12 ~{OUT7} (out) "Constant-current output", 13 ~{OUT8} (out) "Constant-current output", 14 ~{OUT9} (out) "Constant-current output", 15 ~{OUT10} (out) "Constant-current output", 16 ~{OUT11} (out) "Constant-current output", 17 ~{OUT12} (out) "Constant-current output", 18 ~{OUT13} (out) "Constant-current output", 19 ~{OUT14} (out) "Constant-current output", 20 ~{OUT15} (out) "Constant-current output", 21 ~{OE} (in) "Output enable.When O\E\ is active (low), the output driver are enabled.When O\E\ is high ,all output drivers are turned OFF (blanked). O\E\ has an internal pullup resistor.", 22 SDO (out) "Serial-data output to the following SDI of next driver IC or to the microcontroller", 23 R-EXT (in) "Input used to connect an external resistor (Rext) for setting output currents", 24 VDD (power) "Supply voltage"

## TLC5925IDBQRG4
designator U?
Low-Power 16-Channel Constant-Current LED Sink Driver, 3 to 5.5 V, -40 to 85 degC, 24-pin SOP (DBQ24), Green (RoHS & no Sb/Br); Manufacturer: Texas Instruments; PartNumber: TLC5925IDBQRG4; Iout(Max)(A): 0.045; Rating: Catalog; SubFamily: Signage/Linear; Vin(Max)(V): 5.5; Vin(Min)(V): 3; DatasheetVersion: SLVS765; PackageVersion: 4073301-4/H; PackageReference: DBQ24; PackageDescription: 24-Pin Plastic Small-Outline, Body 8.65 x 3.90 mm, Pitch 0.635 mm; Supplier 1: Digi-Key; Supplier Part Number 1: TLC5925IDBQRG4-ND; Supplier 2: Mouser; Supplier Part Number 2: 595-TLC5925IDBQRG4; Eco-Plan: Green (RoHS & no Sb/Br); Mounting Technology: Surface Mount; Code_JEDEC: MO-137; ComponentLink1Description: Manufacturer URL; ComponentLink1URL: http://www.ti.com/; ComponentLink2Description: Datasheet; ComponentLink2URL: http://www.ti.com/general/docs/lit/getliterature.tsp?genericPartNumber=TLC5925&fileType=pdf; ComponentLink3Description: Package Specification; ComponentLink3URL: http://www.ti.com/litv/pdf/mpds211a
footprint TI-DBQ24_N (SOP, 24-Leads, Body 8.65x6mm, Pitch 0.635mm, IPC Medium Density)
footprint TI-DBQ24_L (SOP, 24-Leads, Body 8.65x6mm, Pitch 0.635mm, IPC High Density)
footprint TI-DBQ24_M (SOP, 24-Leads, Body 8.65x6mm, Pitch 0.635mm, IPC Low Density)
pins: 1 GND (power) "Ground for control logic and current sink", 2 SDI (in) "Serial-data input to the Shift register", 3 CLK (in) "Clock input for data shift on rising edge", 4 LE (in) "Data strobe input Serial data is transferred to the respective latch when LE is high.The data is latched when LE low.LE has an internal pull-down resistor.", 5 ~{OUT0} (out) "Constant-current output", 6 ~{OUT1} (out) "Constant-current output", 7 ~{OUT2} (out) "Constant-current output", 8 ~{OUT3} (out) "Constant-current output", 9 ~{OUT4} (out) "Constant-current output", 10 ~{OUT5} (out) "Constant-current output", 11 ~{OUT6} (out) "Constant-current output", 12 ~{OUT7} (out) "Constant-current output", 13 ~{OUT8} (out) "Constant-current output", 14 ~{OUT9} (out) "Constant-current output", 15 ~{OUT10} (out) "Constant-current output", 16 ~{OUT11} (out) "Constant-current output", 17 ~{OUT12} (out) "Constant-current output", 18 ~{OUT13} (out) "Constant-current output", 19 ~{OUT14} (out) "Constant-current output", 20 ~{OUT15} (out) "Constant-current output", 21 ~{OE} (in) "Output enable.When O\E\ is active (low), the output driver are enabled.When O\E\ is high ,all output drivers are turned OFF (blanked). O\E\ has an internal pullup resistor.", 22 SDO (out) "Serial-data output to the following SDI of next driver IC or to the microcontroller", 23 R-EXT (in) "Input used to connect an external resistor (Rext) for setting output currents", 24 VDD (power) "Supply voltage"

## TLC5925IDWR
designator U?
Low-Power 16-Channel Constant-Current LED Sink Driver, 3 to 5.5 V, -40 to 85 degC, 24-pin SOIC (DW24), Green (RoHS & no Sb/Br); Manufacturer: Texas Instruments; PartNumber: TLC5925IDWR; Iout(Max)(A): 0.045; Rating: Catalog; SubFamily: Signage/Linear; Vin(Max)(V): 5.5; Vin(Min)(V): 3; DatasheetVersion: SLVS765; PackageVersion: 4040000-5/G; PackageReference: DW24; PackageDescription: 24-Pin Plastic Small Outline, Body 15.4 x 7.5 mm, Pitch 1.27 mm; Supplier 1: Digi-Key; Supplier Part Number 1: 296-24465-2-ND; Supplier 2: Digi-Key; Supplier Part Number 2: 296-24465-1-ND; Supplier 3: Digi-Key; Supplier Part Number 3: 296-24465-6-ND; Supplier 4: Farnell; Supplier Part Number 4: 1858096; Supplier 5: Farnell; Supplier Part Number 5: 1858096RL; Supplier 6: Newark; Supplier Part Number 6: 10R6961; Supplier 7: Newark; Supplier Part Number 7: 39T5765; Supplier 8: Mouser; Supplier Part Number 8: 595-TLC5925IDWR; Eco-Plan: Green (RoHS & no Sb/Br); Mounting Technology: Surface Mount; Code_JEDEC: MS-013; ComponentLink1Description: Manufacturer URL; ComponentLink1URL: http://www.ti.com/; ComponentLink2Description: Datasheet; ComponentLink2URL: http://www.ti.com/general/docs/lit/getliterature.tsp?genericPartNumber=TLC5925&fileType=pdf; ComponentLink3Description: Package Specification; ComponentLink3URL: http://www.ti.com/litv/pdf/mpds174a
footprint TI-DW24_N (SOIC, 24-Leads, Body 15.4x7.5mm, Pitch 1.27mm, IPC Medium Density)
footprint TI-DW24_L (SOIC, 24-Leads, Body 15.4x7.5mm, Pitch 1.27mm, IPC High Density)
footprint TI-DW24_M (SOIC, 24-Leads, Body 15.4x7.5mm, Pitch 1.27mm, IPC Low Density)
pins: 1 GND (power) "Ground for control logic and current sink", 2 SDI (in) "Serial-data input to the Shift register", 3 CLK (in) "Clock input for data shift on rising edge", 4 LE (in) "Data strobe input Serial data is transferred to the respective latch when LE is high.The data is latched when LE low.LE has an internal pull-down resistor.", 5 ~{OUT0} (out) "Constant-current output", 6 ~{OUT1} (out) "Constant-current output", 7 ~{OUT2} (out) "Constant-current output", 8 ~{OUT3} (out) "Constant-current output", 9 ~{OUT4} (out) "Constant-current output", 10 ~{OUT5} (out) "Constant-current output", 11 ~{OUT6} (out) "Constant-current output", 12 ~{OUT7} (out) "Constant-current output", 13 ~{OUT8} (out) "Constant-current output", 14 ~{OUT9} (out) "Constant-current output", 15 ~{OUT10} (out) "Constant-current output", 16 ~{OUT11} (out) "Constant-current output", 17 ~{OUT12} (out) "Constant-current output", 18 ~{OUT13} (out) "Constant-current output", 19 ~{OUT14} (out) "Constant-current output", 20 ~{OUT15} (out) "Constant-current output", 21 ~{OE} (in) "Output enable.When O\E\ is active (low), the output driver are enabled.When O\E\ is high ,all output drivers are turned OFF (blanked). O\E\ has an internal pullup resistor.", 22 SDO (out) "Serial-data output to the following SDI of next driver IC or to the microcontroller", 23 R-EXT (in) "Input used to connect an external resistor (Rext) for setting output currents", 24 VDD (power) "Supply voltage"

## TLC5925IDWRG4
designator U?
Low-Power 16-Channel Constant-Current LED Sink Driver, 3 to 5.5 V, -40 to 85 degC, 24-pin SOIC (DW24), Green (RoHS & no Sb/Br); Manufacturer: Texas Instruments; PartNumber: TLC5925IDWRG4; Iout(Max)(A): 0.045; Rating: Catalog; SubFamily: Signage/Linear; Vin(Max)(V): 5.5; Vin(Min)(V): 3; DatasheetVersion: SLVS765; PackageVersion: 4040000-5/G; PackageReference: DW24; PackageDescription: 24-Pin Plastic Small Outline, Body 15.4 x 7.5 mm, Pitch 1.27 mm; Supplier 1: Digi-Key; Supplier Part Number 1: TLC5925IDWRG4-ND; Supplier 2: Mouser; Supplier Part Number 2: 595-TLC5925IDWRG4; Eco-Plan: Green (RoHS & no Sb/Br); Mounting Technology: Surface Mount; Code_JEDEC: MS-013; ComponentLink1Description: Manufacturer URL; ComponentLink1URL: http://www.ti.com/; ComponentLink2Description: Datasheet; ComponentLink2URL: http://www.ti.com/general/docs/lit/getliterature.tsp?genericPartNumber=TLC5925&fileType=pdf; ComponentLink3Description: Package Specification; ComponentLink3URL: http://www.ti.com/litv/pdf/mpds174a
footprint TI-DW24_N (SOIC, 24-Leads, Body 15.4x7.5mm, Pitch 1.27mm, IPC Medium Density)
footprint TI-DW24_L (SOIC, 24-Leads, Body 15.4x7.5mm, Pitch 1.27mm, IPC High Density)
footprint TI-DW24_M (SOIC, 24-Leads, Body 15.4x7.5mm, Pitch 1.27mm, IPC Low Density)
pins: 1 GND (power) "Ground for control logic and current sink", 2 SDI (in) "Serial-data input to the Shift register", 3 CLK (in) "Clock input for data shift on rising edge", 4 LE (in) "Data strobe input Serial data is transferred to the respective latch when LE is high.The data is latched when LE low.LE has an internal pull-down resistor.", 5 ~{OUT0} (out) "Constant-current output", 6 ~{OUT1} (out) "Constant-current output", 7 ~{OUT2} (out) "Constant-current output", 8 ~{OUT3} (out) "Constant-current output", 9 ~{OUT4} (out) "Constant-current output", 10 ~{OUT5} (out) "Constant-current output", 11 ~{OUT6} (out) "Constant-current output", 12 ~{OUT7} (out) "Constant-current output", 13 ~{OUT8} (out) "Constant-current output", 14 ~{OUT9} (out) "Constant-current output", 15 ~{OUT10} (out) "Constant-current output", 16 ~{OUT11} (out) "Constant-current output", 17 ~{OUT12} (out) "Constant-current output", 18 ~{OUT13} (out) "Constant-current output", 19 ~{OUT14} (out) "Constant-current output", 20 ~{OUT15} (out) "Constant-current output", 21 ~{OE} (in) "Output enable.When O\E\ is active (low), the output driver are enabled.When O\E\ is high ,all output drivers are turned OFF (blanked). O\E\ has an internal pullup resistor.", 22 SDO (out) "Serial-data output to the following SDI of next driver IC or to the microcontroller", 23 R-EXT (in) "Input used to connect an external resistor (Rext) for setting output currents", 24 VDD (power) "Supply voltage"